# EAGLE library part CONNECTOR_INDRAMAT_MOK1 (library act-global-nolan)
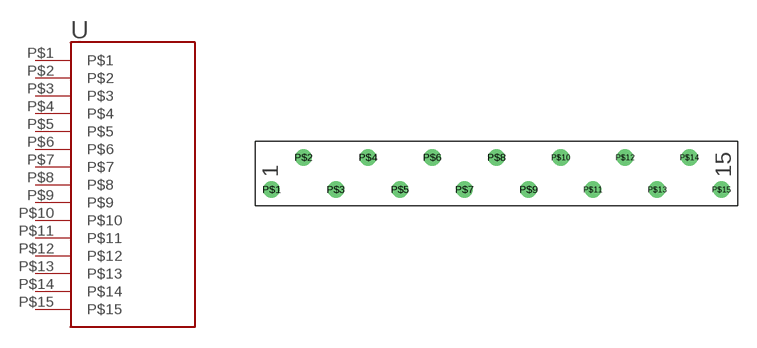
[diagram p4: symbol with the pads of CONNECTOR_MOK1_X2; footprint CONNECTOR_MOK1_X2]

Designator prefix -

## CONNECTOR_INDRAMAT_MOK1  [CONNECTOR_MOK1_X2]
P$1  P$1
P$2  P$2
P$3  P$3
P$4  P$4
P$5  P$5
P$6  P$6
P$7  P$7
P$8  P$8
P$9  P$9
P$10  P$10
P$11  P$11
P$12  P$12
P$13  P$13
P$14  P$14
P$15  P$15

## Footprint CONNECTOR_MOK1_X2 (pad centres in mm)
drill 0.8: P$1 0,0; P$2 2.54,2.54; P$3 5.08,0; P$4 7.62,2.54; P$5 10.16,0; P$6 12.7,2.54; P$7 15.24,0; P$8 17.78,2.54; P$9 20.32,0; P$10 22.86,2.54; P$11 25.4,0; P$12 27.94,2.54; P$13 30.48,0; P$14 33.02,2.54; P$15 35.56,0